# Altium footprint library DO Package.PcbLib: 2 footprints
Each footprint in its own frame and in the unit in brackets; x right, y up, seen from the top. Pads: shape width x height; smd on the part's side, far side on the other; paste and mask are expansions set on the pad; w line width, h text height; cw(c..) or ccw(c..) is an arc to the next point about the centre after c.
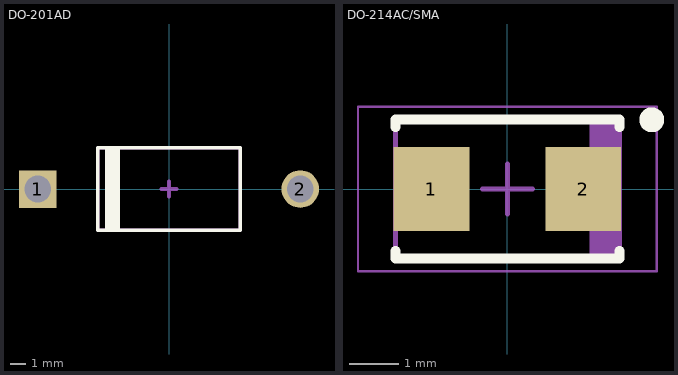
[diagram p0: the footprints below, top view; thin cyan lines are the x and y axes]

## DO-201AD [mm]
pads (2):
  rect 2.5x2.5 hole 1.8: 1(-8.75,0)
  round 2.5 hole 1.8: 2(8.75,0)
Top Overlay:
  rectangle: -4.25,-2.75 -3.25,2.75
  lines w0.254: -4.75,-2.75 4.75,-2.75 4.75,2.75 -4.75,2.75 -4.75,0 -4.75,-2.75
Assembly:
  lines w0.254: -4.75,-2.75 4.75,-2.75 4.75,2.75 -4.75,2.75 -4.75,-2.75
Mechanical 15:
  lines w0.254: -0.5,0 0.5,0 ; 0,-0.5 0,0.5 ; -4.75,-2.75 4.75,-2.75 4.75,2.75 -4.75,2.75 -4.75,-2.75
3D body "DO-201AD.step": height 5.8, standoff -5, extent -9.35,-2.4 9.349,2.4

## DO-214AC/SMA [mm]
height 2.29
pads (2):
  rect 1.52x1.68 smd: 1(-1.525,0) 2(1.525,0)
Top Overlay:
  circle w0.25: c2.9,1.39 r0.125
  lines w0.2: -2.25,-1.24 -2.25,-1.4 2.25,-1.4 2.25,-1.24 ; -2.25,1.24 -2.25,1.4 2.25,1.4 2.25,1.24
Assembly:
  rectangle: 1.645,-1.395 2.25,1.395
  lines w0.1: -2.25,-1.395 -2.25,1.395 2.25,1.395 2.25,-1.395 -2.25,-1.395
Mechanical 15:
  lines w0.05: -3,-1.65 -3,1.65 3,1.65 3,-1.65 -3,-1.65
  lines w0.1: -0.5,0 0.5,0 ; 0,-0.5 0,0.5
3D body "CAPM3216X18N.step": height 2.29, standoff 0, extent -2.47,-1.395 2.47,1.395